# Altium footprint library 10000uF_80V.PcbLib: 1 footprints
Each footprint in its own frame and in the unit in brackets; x right, y up, seen from the top. Pads: shape width x height; smd on the part's side, far side on the other; paste and mask are expansions set on the pad; w line width, h text height; cw(c..) or ccw(c..) is an arc to the next point about the centre after c.
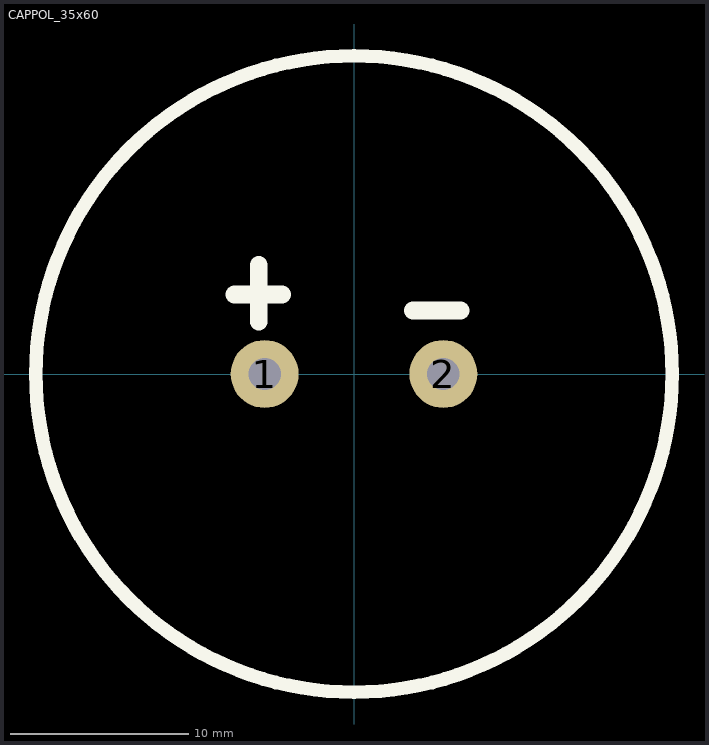
[diagram p0: the footprint, top view; thin cyan lines are the x and y axes]

## CAPPOL_35x60 [mm]
pads (2):
  round 3.8 hole 1.8: 1(-5,0) 2(5,0)
Top Overlay:
  circle w0.762: c0,0 r17.81
  lines w1: -6.698,4.445 -4.031,4.445 ; -5.334,2.921 -5.334,6.096 ; 3.302,3.556 5.969,3.556
3D body "10000uF 80V JCCON LOWESR 35x60mm.STEP": height 60, standoff -4.9, extent -17.5,-17.5 17.51,17.5